# EAGLE library part 61003021821 (library Wurth_Elektronik_Electromechanic_Board_to_Board_Connectors_rev16a)
WR-PHD 2.54mm Dual SMT Socket Header, 30 Pins =>Code : Con_BTB_SHD_2.54_1_SMT_61003021821 <http://katalog.we-online.de/media/images/eican/Con_BTB_SHD_2.54_1_SMT_6100xx21821_pf2.jpg> Details see: http://katalog.we-online.de/en/em/610_0xx_218_21 Created 2014-05-30, Karrer Zheng 2014 (C) Würth Elektronik
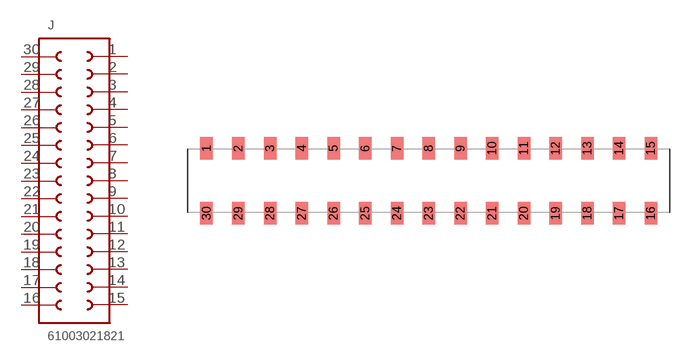
[diagram p223: symbol with the pads of 61003021821; footprint 61003021821]

Designator prefix J

## 61003021821  [61003021821]
1  1  pas
2  2  pas
3  3  pas
4  4  pas
5  5  pas
6  6  pas
7  7  pas
8  8  pas
9  9  pas
10  10  pas
11  11  pas
12  12  pas
13  13  pas
14  14  pas
15  15  pas
16  16  pas
17  17  pas
18  18  pas
19  19  pas
20  20  pas
21  21  pas
22  22  pas
23  23  pas
24  24  pas
25  25  pas
26  26  pas
27  27  pas
28  28  pas
29  29  pas
30  30  pas

## Footprint 61003021821 (pad centres in mm)
WR-PHD 2.54mm Dual SMT Socket Header, 30 Pins
smd 1 x 1.8: 1 -17.78,2.6; 2 -15.24,2.6; 3 -12.7,2.6; 4 -10.16,2.6; 5 -7.62,2.6; 6 -5.08,2.6; 7 -2.54,2.6; 8 0,2.6; 9 2.54,2.6; 10 5.08,2.6; 11 7.62,2.6; 12 10.16,2.6; 13 12.7,2.6; 14 15.24,2.6; 15 17.78,2.6; 16 17.78,-2.6; 17 15.24,-2.6; 18 12.7,-2.6; 19 10.16,-2.6; 20 7.62,-2.6; 21 5.08,-2.6; 22 2.54,-2.6; 23 0,-2.6; 24 -2.54,-2.6; 25 -5.08,-2.6; 26 -7.62,-2.6; 27 -10.16,-2.6; 28 -12.7,-2.6; 29 -15.24,-2.6; 30 -17.78,-2.6